# EAGLE library part ATTINY202/402 (library microcontrollers)
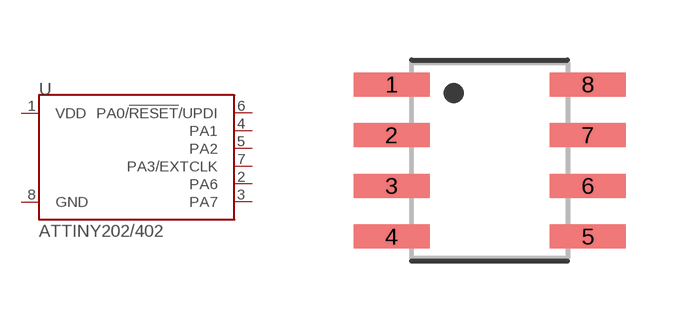
[diagram p0: symbol with the pads of SOIC127P600X175-8N; footprint SOIC127P600X175-8N]

Designator prefix -

## ATTINY202/4028-PIN_SOIC150  [SOIC127P600X175-8N]
1  VDD  pwr
2  PA6
3  PA7
4  PA1
5  PA2
6  PA0/!RESET!/UPDI
7  PA3/EXTCLK
8  GND  pwr

## Footprint SOIC127P600X175-8N (pad centres in mm)
8-SOIC, 1.27 mm pitch, 6.00 mm span, 4.90 X 3.90 X 1.75 mm body 8-pin SOIC package with 1.27 mm pitch, 6.00 mm span with body size 4.90 X 3.90 X 1.75 mm
smd 1.901 x 0.599: 1 -2.455,1.905; 2 -2.455,0.635; 3 -2.455,-0.635; 4 -2.455,-1.905; 5 2.455,-1.905; 6 2.455,-0.635; 7 2.455,0.635; 8 2.455,1.905